# EAGLE library part DTM13-12PA (library DTM13-12PA)
Body Features: Connector & Keying Code A | Primary Product Color Gray | Configuration Features: Number of Sections 1 | PCB Mount Orientation Right Angle | Number of Signal Positions 12 | Number of Rows 2 | Number of Positions 12 | Contact Features: Contact Mating Area Plating Material Tin | Contact Current Rating (Max) 7.5 AMP | Contact Size Size 20 | Mating Pin Diameter 1.02 MM | Mating Pin Diameter .04 INCH | Contact Type Pin | Dimensions: Connector Length 38.23 MM | Profile Height from PCB 35.54 MM | PCB Source: Datasheet <https://www.te.com/commerce/DocumentDelivery/DDEController?Action=srchrtrv&DocNm=1-1773962-8&DocType=Data Sheet&DocLang=English&PartCntxt=DTM13-12PA&DocFormat=pdf>
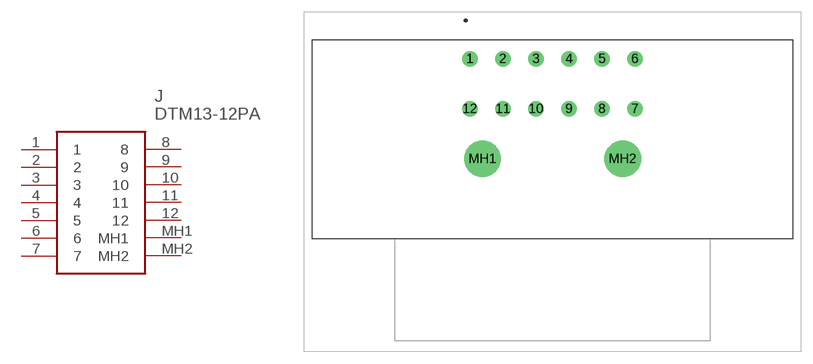
[diagram p0: symbol with the pads of DTM1312PA; footprint DTM1312PA]

Designator prefix J

## DTM13-12PA (Description: Body Features: Connector & Keying Code A | Primary Product Color Gray | Configuration Features: Number of Sections 1 | PCB Mount Orientation Right Angle | Number of Signal Positions 12 | Number of Rows 2 | Number of Positions 12 | Contact Features: Contact Mating Area Plating Material Tin | Contact Current Rating (Max) 7.5 AMP | Contact Size Size 20 | Mating Pin Diameter 1.02 MM | Mating Pin Diameter .04 INCH | Contact Type Pin | Dimensions: Connector Length 38.23 MM | Profile Height from PCB 35.54 MM | PCB; Height: 35.18mm; Manufacturer_Name: TE Connectivity; Manufacturer_Part_Number: DTM13-12PA; Mouser_Part_Number: 571-DTM13-12PA; Mouser_Price-Stock: https://www.mouser.co.uk/ProductDetail/TE-Connectivity-DEUTSCH/DTM13-12PA?qs=cgQJD%2FpJz0wRVbmAAJ6nZw%3D%3D)  [DTM1312PA]
1  1
2  2
3  3
4  4
5  5
6  6
7  7
8  8
9  9
10  10
11  11
12  12
MH1  MH1
MH2  MH2

## Footprint DTM1312PA (pad centres in mm)
DTM13-12PA-4
drill 1.31 pad 1.965: 1 0,0; 2 4.19,0; 3 8.38,0; 4 12.57,0; 5 16.76,0; 6 20.95,0; 7 20.95,-6.35; 8 16.76,-6.35; 9 12.57,-6.35; 10 8.38,-6.35; 11 4.19,-6.35; 12 0,-6.35
drill 3.11 pad 4.665: MH1 1.59,-12.7; MH2 19.37,-12.7